# Altium schematic symbol library TCS3200.SchLib: 1 symbol
Pins are listed as number, name and electrical type; pins without a type are passive.

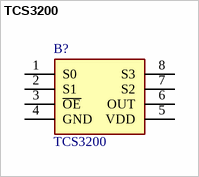
[diagram p0: symbol TCS3200]

## TCS3200
designator B?
High-Resolution Conversion of Light Intensity to Frequency  Programmable Color and Full-Scale Output Frequency  Communicates Directly With a Microcontroller  Single-Supply Operation (2.7 V to 5.5 V)  Power Down Feature  Nonlinearity Error Typically 0.2% at 50 kHz; Manufacturer_Name: ams OSRAM; Geometry.Height: 1.75mm; Manufacturer_Part_Number: TCS3200; Mouser Part Number: N/A; Mouser Price/Stock: https://www.mouser.co.uk/ProductDetail/ams-OSRAM/TCS3200?qs=N6LLV8I65%252BcsUeP7A1YMoQ%3D%3D; Arrow Part Number: *; Arrow Price/Stock: *; Datasheet Link: https://ams.com/documents/20143/36005/TCS3200_DS000107_3-00.pdf/c53d702f-63aa-eda1-745f-d513aa4f535f
footprint SOIC127P600X175-8N
pins: 1 S0, 2 S1, 3 ~{OE}, 4 GND, 5 VDD, 6 OUT, 7 S2, 8 S3